# Altium schematic symbol library Analog_IC#csv.SchLib: 1 symbol
Pins are listed as number, name and electrical type; pins without a type are passive.

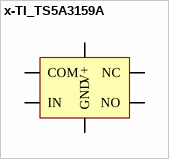
[diagram p0: symbol x-TI_TS5A3159A]

## x-TI_TS5A3159A
designator U?, comment TS5A3159A  (value not drawn)
IC SWITCH SPDT SOT23-6; Manufacturer: "Texas Instruments"; Manufacturer Part Number: TS5A3159ADBVR; Name: x-TI_TS5A3159A; Supplier 1: Digi-Key; Supplier Part Number 1: 296-19265-1-ND
footprint JEDEC_MO-178AB
pins: 1 NO, 2 GND, 3 NC, 4 COM, 5 V+, 6 IN